# Altium schematic symbol library WL-SWTP.SchLib: 30 symbols
Pins are listed as number, name and electrical type; pins without a type are passive.

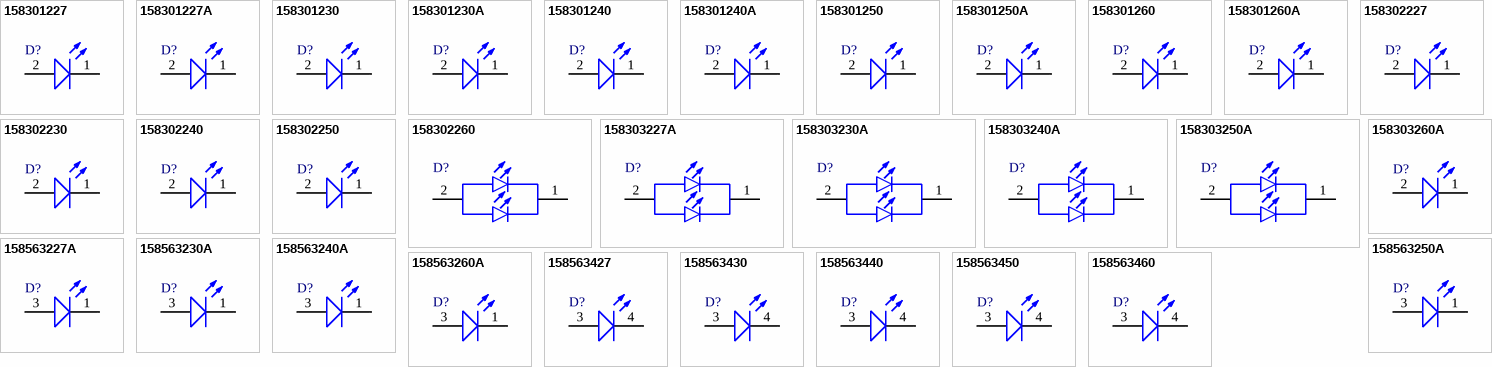
[diagram p0: symbols 158301227 to 158563460]

## 158301227
designator D?, comment Sunrise, 3V, 120deg  (value not drawn)
WL-SWTP SMT White Top view PLCC, size 3014, Sunrise, 3V, 120deg; Manufacturer Part Number: 158301227; Manufacturer: Wurth Elektronik; Case/Size Code: 3014; Chip Technology: InGaN; Color Rendering Index: 85; Correlated Color Temperature: 2700K; Luminous Flux: 8lm; Category: General Lighting; Match Code: WL-SWTP; ComponentLink1Description: Website Link; ComponentLink1URL: https://www.we-online.com; ComponentLink2Description: Datasheet Link; ComponentLink2URL: https://www.we-online.com/components/products/datasheet/158301227; Mount: Surface Mount; Operating Temperature Min: -40degC; Operating Temperature Max: 85degC; Packaging: Tape and Reel; Length: 3mm; Width: 1.4mm; Height: 0.8mm; Emitting Color: Sunrise; Forward Voltage: 3V; Viewing Angle: 120deg
footprint WL-SWTP_3014_L3W1.4H0.8
simulation model 3014_158301227
pins: 1 K, 2 A

## 158301227A
designator D?, comment Sunrise, 2.8V, 120deg  (value not drawn)
WL-SWTP SMT White Top view PLCC, size 3014, Sunrise, 2.8V, 120deg; Manufacturer Part Number: 158301227A; Manufacturer: Wurth Elektronik; Case/Size Code: 3014; Chip Technology: AlInGaN; Color Rendering Index: 85; Correlated Color Temperature: 2700K; Luminous Flux: 26lm; Category: General Lighting; Match Code: WL-SWTP; ComponentLink1Description: Website Link; ComponentLink1URL: https://www.we-online.com; ComponentLink2Description: Datasheet Link; ComponentLink2URL: https://www.we-online.com/components/products/datasheet/158301227A; Mount: Surface Mount; Operating Temperature Min: -40degC; Operating Temperature Max: 85degC; Packaging: Tape and Reel; Length: 3mm; Width: 1.4mm; Height: 0.65mm; Emitting Color: Sunrise; Forward Voltage: 2.8V; Viewing Angle: 120deg
footprint WL-SWTP_3014_L3W1.4H0.65
simulation model 3014_158301227A
pins: 1 K, 2 A

## 158301230
designator D?, comment Warm White, 3V, 120deg  (value not drawn)
WL-SWTP SMT White Top view PLCC, size 3014, Warm White, 3V, 120deg; Manufacturer Part Number: 158301230; Manufacturer: Wurth Elektronik; Case/Size Code: 3014; Chip Technology: InGaN; Color Rendering Index: 85; Correlated Color Temperature: 3000K; Luminous Flux: 8lm; Category: General Lighting; Match Code: WL-SWTP; ComponentLink1Description: Website Link; ComponentLink1URL: https://www.we-online.com; ComponentLink2Description: Datasheet Link; ComponentLink2URL: https://www.we-online.com/components/products/datasheet/158301230; Mount: Surface Mount; Operating Temperature Min: -40degC; Operating Temperature Max: 85degC; Packaging: Tape and Reel; Length: 3mm; Width: 1.4mm; Height: 0.8mm; Emitting Color: Warm White; Forward Voltage: 3V; Viewing Angle: 120deg
footprint WL-SWTP_3014_L3W1.4H0.8
simulation model 3014_158301230
pins: 1 K, 2 A

## 158301230A
designator D?, comment Warm White, 2.8V, 120deg  (value not drawn)
WL-SWTP SMT White Top view PLCC, size 3014, Warm White, 2.8V, 120deg; Manufacturer Part Number: 158301230A; Manufacturer: Wurth Elektronik; Case/Size Code: 3014; Chip Technology: AlInGaN; Color Rendering Index: 85; Correlated Color Temperature: 3000K; Luminous Flux: 26lm; Category: General Lighting; Match Code: WL-SWTP; ComponentLink1Description: Website Link; ComponentLink1URL: https://www.we-online.com; ComponentLink2Description: Datasheet Link; ComponentLink2URL: https://www.we-online.com/components/products/datasheet/158301230A; Mount: Surface Mount; Operating Temperature Min: -40degC; Operating Temperature Max: 85degC; Packaging: Tape and Reel; Length: 3mm; Width: 1.4mm; Height: 0.65mm; Emitting Color: Warm White; Forward Voltage: 2.8V; Viewing Angle: 120deg
footprint WL-SWTP_3014_L3W1.4H0.65
simulation model 3014_158301230A
pins: 1 K, 2 A

## 158301240
designator D?, comment Moonlight, 3V, 120deg  (value not drawn)
WL-SWTP SMT White Top view PLCC, size 3014, Moonlight, 3V, 120deg; Manufacturer Part Number: 158301240; Manufacturer: Wurth Elektronik; Case/Size Code: 3014; Chip Technology: InGaN; Color Rendering Index: 85; Correlated Color Temperature: 4000K; Luminous Flux: 8.5lm; Category: General Lighting; Match Code: WL-SWTP; ComponentLink1Description: Website Link; ComponentLink1URL: https://www.we-online.com; ComponentLink2Description: Datasheet Link; ComponentLink2URL: https://www.we-online.com/components/products/datasheet/158301240; Mount: Surface Mount; Operating Temperature Min: -40degC; Operating Temperature Max: 85degC; Packaging: Tape and Reel; Length: 3mm; Width: 1.4mm; Height: 0.8mm; Emitting Color: Moonlight; Forward Voltage: 3V; Viewing Angle: 120deg
footprint WL-SWTP_3014_L3W1.4H0.8
simulation model 3014_158301240
pins: 1 K, 2 A

## 158301240A
designator D?, comment Moonlight, 2.8V, 120deg  (value not drawn)
WL-SWTP SMT White Top view PLCC, size 3014, Moonlight, 2.8V, 120deg; Manufacturer Part Number: 158301240A; Manufacturer: Wurth Elektronik; Case/Size Code: 3014; Chip Technology: AlInGaN; Color Rendering Index: 85; Correlated Color Temperature: 4000K; Luminous Flux: 26lm; Category: General Lighting; Match Code: WL-SWTP; ComponentLink1Description: Website Link; ComponentLink1URL: https://www.we-online.com; ComponentLink2Description: Datasheet Link; ComponentLink2URL: https://www.we-online.com/components/products/datasheet/158301240A; Mount: Surface Mount; Operating Temperature Min: -40degC; Operating Temperature Max: 85degC; Packaging: Tape and Reel; Length: 3mm; Width: 1.4mm; Height: 0.65mm; Emitting Color: Moonlight; Forward Voltage: 2.8V; Viewing Angle: 120deg
footprint WL-SWTP_3014_L3W1.4H0.65
simulation model 3014_158301240A
pins: 1 K, 2 A

## 158301250
designator D?, comment Daylight, 3V, 120deg  (value not drawn)
WL-SWTP SMT White Top view PLCC, size 3014, Daylight, 3V, 120deg; Manufacturer Part Number: 158301250; Manufacturer: Wurth Elektronik; Case/Size Code: 3014; Chip Technology: InGaN; Color Rendering Index: 85; Correlated Color Temperature: 5000K; Luminous Flux: 9lm; Category: General Lighting; Match Code: WL-SWTP; ComponentLink1Description: Website Link; ComponentLink1URL: https://www.we-online.com; ComponentLink2Description: Datasheet Link; ComponentLink2URL: https://www.we-online.com/components/products/datasheet/158301250; Mount: Surface Mount; Operating Temperature Min: -40degC; Operating Temperature Max: 85degC; Packaging: Tape and Reel; Length: 3mm; Width: 1.4mm; Height: 0.8mm; Emitting Color: Daylight; Forward Voltage: 3V; Viewing Angle: 120deg
footprint WL-SWTP_3014_L3W1.4H0.8
simulation model 3014_158301250
pins: 1 K, 2 A

## 158301250A
designator D?, comment Daylight, 2.8V, 120deg  (value not drawn)
WL-SWTP SMT White Top view PLCC, size 3014, Daylight, 2.8V, 120deg; Manufacturer Part Number: 158301250A; Manufacturer: Wurth Elektronik; Case/Size Code: 3014; Chip Technology: AlInGaN; Color Rendering Index: 85; Correlated Color Temperature: 5000K; Luminous Flux: 26lm; Category: General Lighting; Match Code: WL-SWTP; ComponentLink1Description: Website Link; ComponentLink1URL: https://www.we-online.com; ComponentLink2Description: Datasheet Link; ComponentLink2URL: https://www.we-online.com/components/products/datasheet/158301250A; Mount: Surface Mount; Operating Temperature Min: -40degC; Operating Temperature Max: 85degC; Packaging: Tape and Reel; Length: 3mm; Width: 1.4mm; Height: 0.65mm; Emitting Color: Daylight; Forward Voltage: 2.8V; Viewing Angle: 120deg
footprint WL-SWTP_3014_L3W1.4H0.65
simulation model 3014_158301250A
pins: 1 K, 2 A

## 158301260
designator D?, comment Cool White, 3V, 120deg  (value not drawn)
WL-SWTP SMT White Top view PLCC, size 3014, Cool White, 3V, 120deg; Manufacturer Part Number: 158301260; Manufacturer: Wurth Elektronik; Case/Size Code: 3014; Chip Technology: InGaN; Color Rendering Index: 90; Correlated Color Temperature: 6000K; Luminous Flux: 9lm; Category: General Lighting; Match Code: WL-SWTP; ComponentLink1Description: Website Link; ComponentLink1URL: https://www.we-online.com; ComponentLink2Description: Datasheet Link; ComponentLink2URL: https://www.we-online.com/components/products/datasheet/158301260; Mount: Surface Mount; Operating Temperature Min: -40degC; Operating Temperature Max: 85degC; Packaging: Tape and Reel; Length: 3mm; Width: 1.4mm; Height: 0.8mm; Emitting Color: Cool White; Forward Voltage: 3V; Viewing Angle: 120deg
footprint WL-SWTP_3014_L3W1.4H0.8
simulation model 3014_158301260
pins: 1 K, 2 A

## 158301260A
designator D?, comment Cool White, 2.8V, 120deg  (value not drawn)
WL-SWTP SMT White Top view PLCC, size 3014, Cool White, 2.8V, 120deg; Manufacturer Part Number: 158301260A; Manufacturer: Wurth Elektronik; Case/Size Code: 3014; Chip Technology: AlInGaN; Color Rendering Index: 85; Correlated Color Temperature: 6000K; Luminous Flux: 26lm; Category: General Lighting; Match Code: WL-SWTP; ComponentLink1Description: Website Link; ComponentLink1URL: https://www.we-online.com; ComponentLink2Description: Datasheet Link; ComponentLink2URL: https://www.we-online.com/components/products/datasheet/158301260A; Mount: Surface Mount; Operating Temperature Min: -40degC; Operating Temperature Max: 85degC; Packaging: Tape and Reel; Length: 3mm; Width: 1.4mm; Height: 0.65mm; Emitting Color: Cool White; Forward Voltage: 2.8V; Viewing Angle: 120deg
footprint WL-SWTP_3014_L3W1.4H0.65
simulation model 3014_158301260A
pins: 1 K, 2 A

## 158302227
designator D?, comment Sunrise, 3.2V, 120deg  (value not drawn)
WL-SWTP SMT White Top view PLCC, size 3022, Sunrise, 3.2V, 120deg; Manufacturer Part Number: 158302227; Manufacturer: Wurth Elektronik; Case/Size Code: 3022; Chip Technology: InGaN; Color Rendering Index: 85; Correlated Color Temperature: 2700K; Luminous Flux: 20lm; Category: General Lighting; Match Code: WL-SWTP; ComponentLink1Description: Website Link; ComponentLink1URL: https://www.we-online.com; ComponentLink2Description: Datasheet Link; ComponentLink2URL: https://www.we-online.com/components/products/datasheet/158302227; Mount: Surface Mount; Operating Temperature Min: -40degC; Operating Temperature Max: 85degC; Packaging: Tape and Reel; Length: 3mm; Width: 2mm; Height: 0.8mm; Emitting Color: Sunrise; Forward Voltage: 3.2V; Viewing Angle: 120deg
footprint WL-SWTP_3022_L3W2H0.8
simulation model 3022_158302227
pins: 1 K, 2 A

## 158302230
designator D?, comment Warm White, 3.2V, 120deg  (value not drawn)
WL-SWTP SMT White Top view PLCC, size 3022, Warm White, 3.2V, 120deg; Manufacturer Part Number: 158302230; Manufacturer: Wurth Elektronik; Case/Size Code: 3022; Chip Technology: InGaN; Color Rendering Index: 85; Correlated Color Temperature: 3000K; Luminous Flux: 20lm; Category: General Lighting; Match Code: WL-SWTP; ComponentLink1Description: Website Link; ComponentLink1URL: https://www.we-online.com; ComponentLink2Description: Datasheet Link; ComponentLink2URL: https://www.we-online.com/components/products/datasheet/158302230; Mount: Surface Mount; Operating Temperature Min: -40degC; Operating Temperature Max: 85degC; Packaging: Tape and Reel; Length: 3mm; Width: 2mm; Height: 0.8mm; Emitting Color: Warm White; Forward Voltage: 3.2V; Viewing Angle: 120deg
footprint WL-SWTP_3022_L3W2H0.8
simulation model 3022_158302230
pins: 1 K, 2 A

## 158302240
designator D?, comment Moonlight, 3.2V, 120deg  (value not drawn)
WL-SWTP SMT White Top view PLCC, size 3022, Moonlight, 3.2V, 120deg; Manufacturer Part Number: 158302240; Manufacturer: Wurth Elektronik; Case/Size Code: 3022; Chip Technology: InGaN; Color Rendering Index: 85; Correlated Color Temperature: 4000K; Luminous Flux: 22lm; Category: General Lighting; Match Code: WL-SWTP; ComponentLink1Description: Website Link; ComponentLink1URL: https://www.we-online.com; ComponentLink2Description: Datasheet Link; ComponentLink2URL: https://www.we-online.com/components/products/datasheet/158302240; Mount: Surface Mount; Operating Temperature Min: -40degC; Operating Temperature Max: 85degC; Packaging: Tape and Reel; Length: 3mm; Width: 2mm; Height: 0.8mm; Emitting Color: Moonlight; Forward Voltage: 3.2V; Viewing Angle: 120deg
footprint WL-SWTP_3022_L3W2H0.8
simulation model 3022_158302240
pins: 1 K, 2 A

## 158302250
designator D?, comment Daylight, 3.2V, 120deg  (value not drawn)
WL-SWTP SMT White Top view PLCC, size 3022, Daylight, 3.2V, 120deg; Manufacturer Part Number: 158302250; Manufacturer: Wurth Elektronik; Case/Size Code: 3022; Chip Technology: InGaN; Color Rendering Index: 85; Correlated Color Temperature: 5000K; Luminous Flux: 22lm; Category: General Lighting; Match Code: WL-SWTP; ComponentLink1Description: Website Link; ComponentLink1URL: https://www.we-online.com; ComponentLink2Description: Datasheet Link; ComponentLink2URL: https://www.we-online.com/components/products/datasheet/158302250; Mount: Surface Mount; Operating Temperature Min: -40degC; Operating Temperature Max: 85degC; Packaging: Tape and Reel; Length: 3mm; Width: 2mm; Height: 0.8mm; Emitting Color: Daylight; Forward Voltage: 3.2V; Viewing Angle: 120deg
footprint WL-SWTP_3022_L3W2H0.8
simulation model 3022_158302250
pins: 1 K, 2 A

## 158302260
designator D?, comment Cool White, 3.2V, 120deg  (value not drawn)
WL-SWTP SMT White Top view PLCC, size 3022, Cool White, 3.2V, 120deg; Manufacturer Part Number: 158302260; Manufacturer: Wurth Elektronik; Case/Size Code: 3022; Chip Technology: InGaN; Color Rendering Index: 90; Correlated Color Temperature: 6000K; Luminous Flux: 22lm; Category: General Lighting; Match Code: WL-SWTP; ComponentLink1Description: Website Link; ComponentLink1URL: https://www.we-online.com; ComponentLink2Description: Datasheet Link; ComponentLink2URL: https://www.we-online.com/components/products/datasheet/158302260; Mount: Surface Mount; Operating Temperature Min: -40degC; Operating Temperature Max: 85degC; Packaging: Tape and Reel; Length: 3mm; Width: 2mm; Height: 0.8mm; Emitting Color: Cool White; Forward Voltage: 3.2V; Viewing Angle: 120deg
footprint WL-SWTP_3022_L3W2H0.8
simulation model 3022_158302260
pins: 1 K, 2 A

## 158303227A
designator D?, comment Sunrise, 2.8V, 120deg  (value not drawn)
WL-SWTP SMT White Top view PLCC, size 3030, Sunrise, 2.8V, 120deg; Manufacturer Part Number: 158303227A; Manufacturer: Wurth Elektronik; Case/Size Code: 3030; Chip Technology: AlInGaN; Color Rendering Index: 85; Correlated Color Temperature: 2700K; Luminous Flux: 34lm; Category: General Lighting; Match Code: WL-SWTP; ComponentLink1Description: Website Link; ComponentLink1URL: https://www.we-online.com; ComponentLink2Description: Datasheet Link; ComponentLink2URL: https://www.we-online.com/components/products/datasheet/158303227A; Mount: Surface Mount; Operating Temperature Min: -40degC; Operating Temperature Max: 85degC; Packaging: Tape and Reel; Length: 3mm; Width: 3mm; Height: 0.67mm; Emitting Color: Sunrise; Forward Voltage: 2.8V; Viewing Angle: 120deg
footprint WL-SWTP_3030_L3W3H0.67
simulation model 3030_158303227A
pins: 1 K, 2 A

## 158303230A
designator D?, comment Warm White, 2.8V, 120deg  (value not drawn)
WL-SWTP SMT White Top view PLCC, size 3030, Warm White, 2.8V, 120deg; Manufacturer Part Number: 158303230A; Manufacturer: Wurth Elektronik; Case/Size Code: 3030; Chip Technology: AlInGaN; Color Rendering Index: 85; Correlated Color Temperature: 3000K; Luminous Flux: 34lm; Category: General Lighting; Match Code: WL-SWTP; ComponentLink1Description: Website Link; ComponentLink1URL: https://www.we-online.com; ComponentLink2Description: Datasheet Link; ComponentLink2URL: https://www.we-online.com/components/products/datasheet/158303230A; Mount: Surface Mount; Operating Temperature Min: -40degC; Operating Temperature Max: 85degC; Packaging: Tape and Reel; Length: 3mm; Width: 3mm; Height: 0.67mm; Emitting Color: Warm White; Forward Voltage: 2.8V; Viewing Angle: 120deg
footprint WL-SWTP_3030_L3W3H0.67
simulation model 3030_158303230A
pins: 1 K, 2 A

## 158303240A
designator D?, comment Moonlight, 2.8V, 120deg  (value not drawn)
WL-SWTP SMT White Top view PLCC, size 3030, Moonlight, 2.8V, 120deg; Manufacturer Part Number: 158303240A; Manufacturer: Wurth Elektronik; Case/Size Code: 3030; Chip Technology: AlInGaN; Color Rendering Index: 85; Correlated Color Temperature: 4000K; Luminous Flux: 36lm; Category: General Lighting; Match Code: WL-SWTP; ComponentLink1Description: Website Link; ComponentLink1URL: https://www.we-online.com; ComponentLink2Description: Datasheet Link; ComponentLink2URL: https://www.we-online.com/components/products/datasheet/158303240A; Mount: Surface Mount; Operating Temperature Min: -40degC; Operating Temperature Max: 85degC; Packaging: Tape and Reel; Length: 3mm; Width: 3mm; Height: 0.67mm; Emitting Color: Moonlight; Forward Voltage: 2.8V; Viewing Angle: 120deg
footprint WL-SWTP_3030_L3W3H0.67
simulation model 3030_158303240A
pins: 1 K, 2 A

## 158303250A
designator D?, comment Daylight, 2.8V, 120deg  (value not drawn)
WL-SWTP SMT White Top view PLCC, size 3030, Daylight, 2.8V, 120deg; Manufacturer Part Number: 158303250A; Manufacturer: Wurth Elektronik; Case/Size Code: 3030; Chip Technology: AlInGaN; Color Rendering Index: 85; Correlated Color Temperature: 5000K; Luminous Flux: 36lm; Category: General Lighting; Match Code: WL-SWTP; ComponentLink1Description: Website Link; ComponentLink1URL: https://www.we-online.com; ComponentLink2Description: Datasheet Link; ComponentLink2URL: https://www.we-online.com/components/products/datasheet/158303250A; Mount: Surface Mount; Operating Temperature Min: -40degC; Operating Temperature Max: 85degC; Packaging: Tape and Reel; Length: 3mm; Width: 3mm; Height: 0.67mm; Emitting Color: Daylight; Forward Voltage: 2.8V; Viewing Angle: 120deg
footprint WL-SWTP_3030_L3W3H0.67
simulation model 3030_158303250A
pins: 1 K, 2 A

## 158303260A
designator D?, comment Cool White, 2.8V, 120deg  (value not drawn)
WL-SWTP SMT White Top view PLCC, size 3030, Cool White, 2.8V, 120deg; Manufacturer Part Number: 158303260A; Manufacturer: Wurth Elektronik; Case/Size Code: 3030; Chip Technology: AlInGaN; Color Rendering Index: 85; Correlated Color Temperature: 6000K; Luminous Flux: 36lm; Category: General Lighting; Match Code: WL-SWTP; ComponentLink1Description: Website Link; ComponentLink1URL: https://www.we-online.com; ComponentLink2Description: Datasheet Link; ComponentLink2URL: https://www.we-online.com/components/products/datasheet/158303260A; Mount: Surface Mount; Operating Temperature Min: -40degC; Operating Temperature Max: 85degC; Packaging: Tape and Reel; Length: 3mm; Width: 3mm; Height: 0.67mm; Emitting Color: Cool White; Forward Voltage: 2.8V; Viewing Angle: 120deg
footprint WL-SWTP_3030_L3W3H0.67
simulation model 3030_158303260A
pins: 1 K, 2 A

## 158563227A
designator D?, comment Sunrise, 2.8V, 120deg  (value not drawn)
WL-SWTP SMT White Top view PLCC, size 5630, Sunrise, 2.8V, 120deg; Manufacturer Part Number: 158563227A; Manufacturer: Wurth Elektronik; Case/Size Code: 5630; Chip Technology: InGaN; Color Rendering Index: 85; Correlated Color Temperature: 2700K; Luminous Flux: 32lm; Category: General Lighting; Match Code: WL-SWTP; ComponentLink1Description: Website Link; ComponentLink1URL: https://www.we-online.com; ComponentLink2Description: Datasheet Link; ComponentLink2URL: https://www.we-online.com/components/products/datasheet/158563227A; Mount: Surface Mount; Operating Temperature Min: -40degC; Operating Temperature Max: 85degC; Packaging: Tape and Reel; Length: 5.6mm; Width: 3mm; Height: 0.6mm; Emitting Color: Sunrise; Forward Voltage: 2.8V; Viewing Angle: 120deg
footprint WL-SWTP_5630_L5.6W3H0.6
simulation model 5630_158563227A
pins: 1 K, 3 A

## 158563230A
designator D?, comment Warm White, 2.8V, 120deg  (value not drawn)
WL-SWTP SMT White Top view PLCC, size 5630, Warm White, 2.8V, 120deg; Manufacturer Part Number: 158563230A; Manufacturer: Wurth Elektronik; Case/Size Code: 5630; Chip Technology: InGaN; Color Rendering Index: 85; Correlated Color Temperature: 3000K; Luminous Flux: 32lm; Category: General Lighting; Match Code: WL-SWTP; ComponentLink1Description: Website Link; ComponentLink1URL: https://www.we-online.com; ComponentLink2Description: Datasheet Link; ComponentLink2URL: https://www.we-online.com/components/products/datasheet/158563230A; Mount: Surface Mount; Operating Temperature Min: -40degC; Operating Temperature Max: 85degC; Packaging: Tape and Reel; Length: 5.6mm; Width: 3mm; Height: 0.6mm; Emitting Color: Warm White; Forward Voltage: 2.8V; Viewing Angle: 120deg
footprint WL-SWTP_5630_L5.6W3H0.6
simulation model 5630_158563230A
pins: 1 K, 3 A

## 158563240A
designator D?, comment Moonlight, 2.8V, 120deg  (value not drawn)
WL-SWTP SMT White Top view PLCC, size 5630, Moonlight, 2.8V, 120deg; Manufacturer Part Number: 158563240A; Manufacturer: Wurth Elektronik; Case/Size Code: 5630; Chip Technology: InGaN; Color Rendering Index: 85; Correlated Color Temperature: 4000K; Luminous Flux: 32lm; Category: General Lighting; Match Code: WL-SWTP; ComponentLink1Description: Website Link; ComponentLink1URL: https://www.we-online.com; ComponentLink2Description: Datasheet Link; ComponentLink2URL: https://www.we-online.com/components/products/datasheet/158563240A; Mount: Surface Mount; Operating Temperature Min: -40degC; Operating Temperature Max: 85degC; Packaging: Tape and Reel; Length: 5.6mm; Width: 3mm; Height: 0.6mm; Emitting Color: Moonlight; Forward Voltage: 2.8V; Viewing Angle: 120deg
footprint WL-SWTP_5630_L5.6W3H0.6
simulation model 5630_158563240A
pins: 1 K, 3 A

## 158563250A
designator D?, comment Daylight, 2.8V, 120deg  (value not drawn)
WL-SWTP SMT White Top view PLCC, size 5630, Daylight, 2.8V, 120deg; Manufacturer Part Number: 158563250A; Manufacturer: Wurth Elektronik; Case/Size Code: 5630; Chip Technology: InGaN; Color Rendering Index: 85; Correlated Color Temperature: 5000K; Luminous Flux: 35lm; Category: General Lighting; Match Code: WL-SWTP; ComponentLink1Description: Website Link; ComponentLink1URL: https://www.we-online.com; ComponentLink2Description: Datasheet Link; ComponentLink2URL: https://www.we-online.com/components/products/datasheet/158563250A; Mount: Surface Mount; Operating Temperature Min: -40degC; Operating Temperature Max: 85degC; Packaging: Tape and Reel; Length: 5.6mm; Width: 3mm; Height: 0.6mm; Emitting Color: Daylight; Forward Voltage: 2.8V; Viewing Angle: 120deg
footprint WL-SWTP_5630_L5.6W3H0.6
simulation model 5630_158563250A
pins: 1 K, 3 A

## 158563260A
designator D?, comment Cool White, 2.8V, 120deg  (value not drawn)
WL-SWTP SMT White Top view PLCC, size 5630, Cool White, 2.8V, 120deg; Manufacturer Part Number: 158563260A; Manufacturer: Wurth Elektronik; Case/Size Code: 5630; Chip Technology: InGaN; Color Rendering Index: 85; Correlated Color Temperature: 6000K; Luminous Flux: 35lm; Category: General Lighting; Match Code: WL-SWTP; ComponentLink1Description: Website Link; ComponentLink1URL: https://www.we-online.com; ComponentLink2Description: Datasheet Link; ComponentLink2URL: https://www.we-online.com/components/products/datasheet/158563260A; Mount: Surface Mount; Operating Temperature Min: -40degC; Operating Temperature Max: 85degC; Packaging: Tape and Reel; Length: 5.6mm; Width: 3mm; Height: 0.6mm; Emitting Color: Cool White; Forward Voltage: 2.8V; Viewing Angle: 120deg
footprint WL-SWTP_5630_L5.6W3H0.6
simulation model 5630_158563260A
pins: 1 K, 3 A

## 158563427
designator D?, comment Sunrise, 3V, 120deg  (value not drawn)
WL-SWTP SMT White Top view PLCC, size 5630, Sunrise, 3V, 120deg; Manufacturer Part Number: 158563427; Manufacturer: Wurth Elektronik; Case/Size Code: 5630; Chip Technology: InGaN; Color Rendering Index: 85; Correlated Color Temperature: 2700K; Luminous Flux: 34lm; Category: General Lighting; Match Code: WL-SWTP; ComponentLink1Description: Website Link; ComponentLink1URL: https://www.we-online.com; ComponentLink2Description: Datasheet Link; ComponentLink2URL: https://www.we-online.com/components/products/datasheet/158563427; Mount: Surface Mount; Operating Temperature Min: -40degC; Operating Temperature Max: 85degC; Packaging: Tape and Reel; Length: 5.6mm; Width: 3mm; Height: 0.77mm; Emitting Color: Sunrise; Forward Voltage: 3V; Viewing Angle: 120deg
footprint WL-SWTP_5630_L5.6W3H0.77
simulation model 5630_158563427
pins: 3 A, 4 K

## 158563430
designator D?, comment Warm White, 3V, 120deg  (value not drawn)
WL-SWTP SMT White Top view PLCC, size 5630, Warm White, 3V, 120deg; Manufacturer Part Number: 158563430; Manufacturer: Wurth Elektronik; Case/Size Code: 5630; Chip Technology: InGaN; Color Rendering Index: 85; Correlated Color Temperature: 3000K; Luminous Flux: 34lm; Category: General Lighting; Match Code: WL-SWTP; ComponentLink1Description: Website Link; ComponentLink1URL: https://www.we-online.com; ComponentLink2Description: Datasheet Link; ComponentLink2URL: https://www.we-online.com/components/products/datasheet/158563430; Mount: Surface Mount; Operating Temperature Min: -40degC; Operating Temperature Max: 85degC; Packaging: Tape and Reel; Length: 5.6mm; Width: 3mm; Height: 0.77mm; Emitting Color: Warm White; Forward Voltage: 3V; Viewing Angle: 120deg
footprint WL-SWTP_5630_L5.6W3H0.77
simulation model 5630_158563430
pins: 3 A, 4 K

## 158563440
designator D?, comment Moonlight, 3V, 120deg  (value not drawn)
WL-SWTP SMT White Top view PLCC, size 5630, Moonlight, 3V, 120deg; Manufacturer Part Number: 158563440; Manufacturer: Wurth Elektronik; Case/Size Code: 5630; Chip Technology: InGaN; Color Rendering Index: 85; Correlated Color Temperature: 4000K; Luminous Flux: 36lm; Category: General Lighting; Match Code: WL-SWTP; ComponentLink1Description: Website Link; ComponentLink1URL: https://www.we-online.com; ComponentLink2Description: Datasheet Link; ComponentLink2URL: https://www.we-online.com/components/products/datasheet/158563440; Mount: Surface Mount; Operating Temperature Min: -40degC; Operating Temperature Max: 85degC; Packaging: Tape and Reel; Length: 5.6mm; Width: 3mm; Height: 0.77mm; Emitting Color: Moonlight; Forward Voltage: 3V; Viewing Angle: 120deg
footprint WL-SWTP_5630_L5.6W3H0.77
simulation model 5630_158563440
pins: 3 A, 4 K

## 158563450
designator D?, comment Daylight, 3V, 120deg  (value not drawn)
WL-SWTP SMT White Top view PLCC, size 5630, Daylight, 3V, 120deg; Manufacturer Part Number: 158563450; Manufacturer: Wurth Elektronik; Case/Size Code: 5630; Chip Technology: InGaN; Color Rendering Index: 85; Correlated Color Temperature: 5000K; Luminous Flux: 39lm; Category: General Lighting; Match Code: WL-SWTP; ComponentLink1Description: Website Link; ComponentLink1URL: https://www.we-online.com; ComponentLink2Description: Datasheet Link; ComponentLink2URL: https://www.we-online.com/components/products/datasheet/158563450; Mount: Surface Mount; Operating Temperature Min: -40degC; Operating Temperature Max: 85degC; Packaging: Tape and Reel; Length: 5.6mm; Width: 3mm; Height: 0.77mm; Emitting Color: Daylight; Forward Voltage: 3V; Viewing Angle: 120deg
footprint WL-SWTP_5630_L5.6W3H0.77
simulation model 5630_158563450
pins: 3 A, 4 K

## 158563460
designator D?, comment Cool White, 3V, 120deg  (value not drawn)
WL-SWTP SMT White Top view PLCC, size 5630, Cool White, 3V, 120deg; Manufacturer Part Number: 158563460; Manufacturer: Wurth Elektronik; Case/Size Code: 5630; Chip Technology: InGaN; Color Rendering Index: 90; Correlated Color Temperature: 6000K; Luminous Flux: 39lm; Category: General Lighting; Match Code: WL-SWTP; ComponentLink1Description: Website Link; ComponentLink1URL: https://www.we-online.com; ComponentLink2Description: Datasheet Link; ComponentLink2URL: https://www.we-online.com/components/products/datasheet/158563460; Mount: Surface Mount; Operating Temperature Min: -40degC; Operating Temperature Max: 85degC; Packaging: Tape and Reel; Length: 5.6mm; Width: 3mm; Height: 0.77mm; Emitting Color: Cool White; Forward Voltage: 3V; Viewing Angle: 120deg
footprint WL-SWTP_5630_L5.6W3H0.77
simulation model 5630_158563460
pins: 3 A, 4 K